# EAGLE library part STD043F08X2 (library con-pinheader-standard)
female standard header 2mm, 4.3mm height
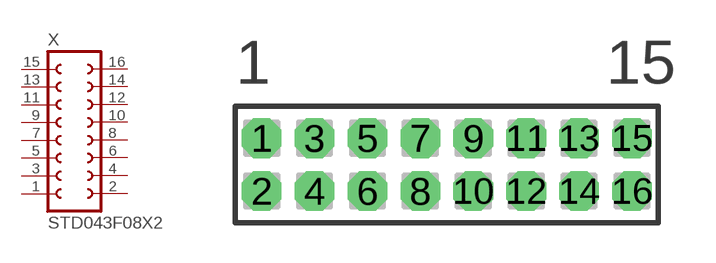
[diagram p21: symbol with the pads of STD043F08X2-2.00; footprint STD043F08X2-2.00]

Designator prefix X

## STD043F08X2-2.00MM  [STD043F08X2-2.00]
1  1  pas
2  2  pas
3  3  pas
4  4  pas
5  5  pas
6  6  pas
7  7  pas
8  8  pas
9  9  pas
10  10  pas
11  11  pas
12  12  pas
13  13  pas
14  14  pas
15  15  pas
16  16  pas

## Footprint STD043F08X2-2.00 (pad centres in mm)
female standard header 2mm, 4.3mm height
drill 0.8 pad 1.5 octagon: 1 -7,1; 2 -7,-1; 3 -5,1; 4 -5,-1; 5 -3,1; 6 -3,-1; 7 -1,1; 8 -1,-1; 9 1,1; 10 1,-1; 11 3,1; 12 3,-1; 13 5,1; 14 5,-1; 15 7,1; 16 7,-1